# EAGLE library part 3008S-8810 (library 3008S-8810)
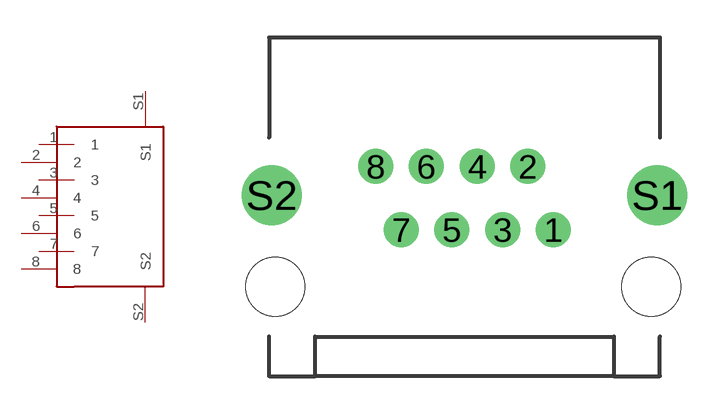
[diagram p0: symbol with the pads of RJ45_FP; footprint RJ45_FP]

Designator prefix -

## 3008S-8810  [RJ45_FP]
1  1
2  2
3  3
4  4
5  5
6  6
7  7
8  8
S1  S1
S2  S2

## Footprint RJ45_FP (pad centres in mm)
drill 0.9: 1 3.57,2.3; 2 2.55,4.84; 3 1.53,2.3; 4 0.51,4.84; 5 -0.51,2.3; 6 -1.53,4.84; 7 -2.55,2.3; 8 -3.57,4.84
drill 1.6: S1 7.75,3.68; S2 -7.75,3.68
hole 2.36 at -7.6,0
hole 2.36 at 7.5,0